# Altium schematic symbol library SMD Mechanical.SchLib: 9 symbols
Pins are listed as number, name and electrical type; pins without a type are passive.

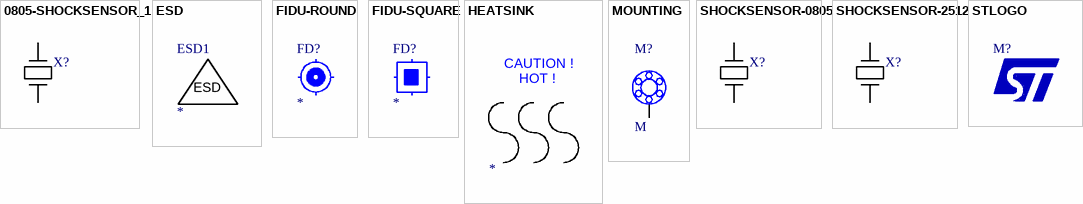
[diagram p0: symbols 0805-SHOCKSENSOR_1 to STLOGO]

## 0805-SHOCKSENSOR_1
designator X?
DO NOT USE : USE SHOCKSENSOR-0805 SYMBOL
footprint 0805-SHOCKSENSOR (SHOCKSENSOR)
pins: 1, 2

## ESD
designator ESD1  (no BOM)
ESD LOGO
footprint ESDSILK

## FIDU-ROUND
designator FD?  (no BOM)
ROUND FIDUCIAL
footprint FIDU-ROUND

## FIDU-SQUARE
designator FD?  (no BOM)
SQUARE FIDUCIAL
footprint FIDU-SQUARE

## HEATSINK
designator ?
text: CAUTION !; HOT !

## MOUNTING
designator M?, comment M  (no BOM)
MOUNTING HOLE - NON INSTALLABLE
footprint MOUNTING
pins: 1, 2, 3, 4, 5, 6, 7

## SHOCKSENSOR-0805
designator X?
SHOCK SENSOR
footprint SHOCKSENSOR-0805 (SHOCKSENSOR)
pins: 1, 2

## SHOCKSENSOR-2512
designator X?
SHOCK SENSOR
footprint SHOCKSENSOR-2512 (SHOCKSENSOR)
pins: 1, 2

## STLOGO
designator M?  (value not drawn)  (no BOM)
footprint STLOGO-SILVER
footprint STLOGO-MINI-SILVER